# Altium footprint library IRF7470PBF.PcbLib: 1 footprints
Each footprint in its own frame and in the unit in brackets; x right, y up, seen from the top. Pads: shape width x height; smd on the part's side, far side on the other; paste and mask are expansions set on the pad; w line width, h text height; cw(c..) or ccw(c..) is an arc to the next point about the centre after c.
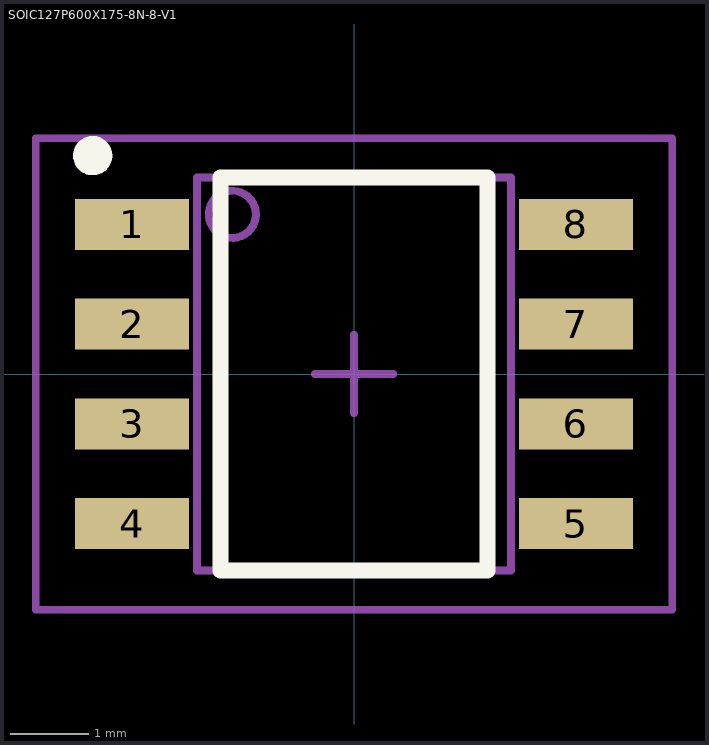
[diagram p0: the footprint, top view; thin cyan lines are the x and y axes]

## SOIC127P600X175-8N-8-V1 [mm]
pads (8):
  rect 1.45x0.65 smd paste+0 mask+0.102: 1(-2.825,1.905) 2(-2.825,0.635) 3(-2.825,-0.635) 4(-2.825,-1.905) 5(2.825,-1.905) 6(2.825,-0.635) 7(2.825,0.635) 8(2.825,1.905)
Top Overlay:
  circle w0.25: c-3.327,2.78 r0.125
  lines w0.2: -1.7,-2.5 -1.7,2.5 1.7,2.5 1.7,-2.5 -1.7,-2.5
Assembly Top:
  circle w0.1: c-1.549,2.032 r0.3
  lines w0.1: -0.5,0 0.5,0 ; 0,-0.5 0,0.5 ; -2,-2.5 2,-2.5 2,2.5 -2,2.5 -2,-2.5
Courtyard Top:
  lines w0.1: -4.05,-3 -4.05,3 4.05,3 4.05,-3 -4.05,-3